# Altium footprint library Oscillators.PcbLib: 2 footprints
Each footprint in its own frame and in the unit in brackets; x right, y up, seen from the top. Pads: shape width x height; smd on the part's side, far side on the other; paste and mask are expansions set on the pad; w line width, h text height; cw(c..) or ccw(c..) is an arc to the next point about the centre after c.
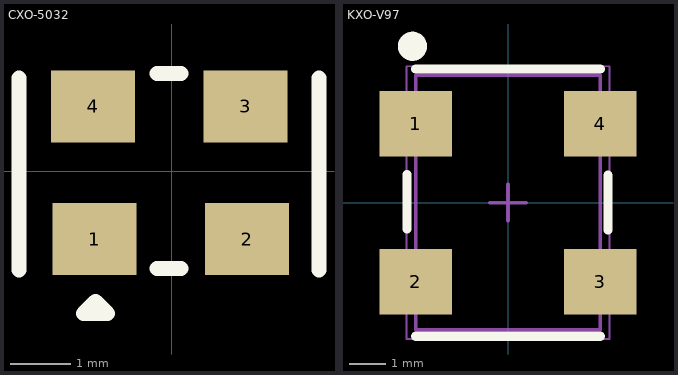
[diagram p0: the footprints below, top view; thin cyan lines are the x and y axes]

## CXO-5032 [mm] "TXC 7C SMD CMOS CXO Oscillators"
height 1.4
pads (4):
  rect 1.4x1.2 smd: 1(-1.288,-1.134) 2(1.252,-1.134) 3(1.227,1.079) 4(-1.313,1.079)
Top Overlay:
  lines w0.254: -2.55,-1.65 -2.55,1.55 ; -0.25,-1.625 0.15,-1.625 ; -0.25,1.625 0.15,1.625 ; 2.45,-1.65 2.45,1.55 ; -1.475,-2.375 -1.075,-2.375 -1.275,-2.175 -1.475,-2.375
3D body "User Library-Crystal TXC Corp 7M series.step": height 0.8, standoff 0, extent -1.65,-1.3 1.65,1.3

## KXO-V97 [mm] "DFN, 4-Leads, Body 7,00x5,08mm, Pitch 5,08mm, IPC Medium Density"
height 1.3
pads (4):
  rect 2x1.8 smd: 1(-2.54,2.175) 2(-2.54,-2.175) 3(2.54,-2.175) 4(2.54,2.175)
Top Overlay:
  circle w0.4: c-2.625,4.3 r0.2
  lines w0.254: -2.775,-0.725 -2.775,0.775 ; -2.54,-3.675 2.54,-3.675 ; -2.54,3.675 2.54,3.675 ; 2.75,-0.75 2.75,0.75
Mechanical 13:
  lines w0.1: -2.54,-3.5 -2.54,3.5 2.54,3.5 2.54,-3.5 -2.54,-3.5
Mechanical 15:
  lines w0.05: -2.79,-3.75 -2.79,3.75 2.79,3.75 2.79,-3.75 -2.79,-3.75
  lines w0.1: -0.5,0 0.5,0 ; 0,-0.5 0,0.5
3D body "User Library-KXO-97V.step": height 1.3, standoff 0, extent -2.54,-3.5 2.54,3.5